# Altium footprint library 39281063.PcbLib: 1 footprints
Each footprint in its own frame and in the unit in brackets; x right, y up, seen from the top. Pads: shape width x height; smd on the part's side, far side on the other; paste and mask are expansions set on the pad; w line width, h text height; cw(c..) or ccw(c..) is an arc to the next point about the centre after c.
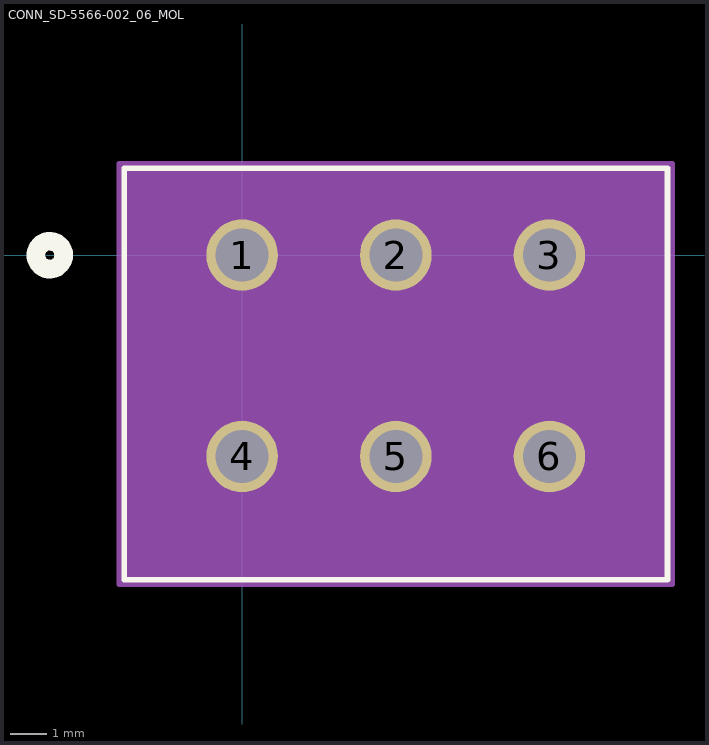
[diagram p0: the footprint, top view; thin cyan lines are the x and y axes]

## CONN_SD-5566-002_06_MOL [mil]
pads (6):
  round 77 hole 57 paste-38.5 mask+0: 1(0,0) 2(165.35,0) 3(330.71,0) 4(0,-216.54) 5(165.35,-216.54) 6(330.71,-216.54)
Top Overlay:
  circle w20: c-207.15,0 r15
  lines w6: -127.15,-349.42 457.85,-349.42 457.85,93.58 -127.15,93.58 -127.15,-349.42
  text ".Designator" at 27.85,-133.27 h50
Bottom Overlay:
  circle w20: c-207.15,0 r15
Mechanical 13:
  circle w20: c0,0 r15
  lines w1: -122.15,-344.42 452.85,-344.42 452.85,88.58 -122.15,88.58 -122.15,-344.42
  text ".Designator" at 27.85,-133.27 h50
Mechanical 15:
  region: 462.85,98.58 -132.15,98.58 -132.15,-354.42 462.85,-354.42
  lines w6: -132.15,-354.42 -132.15,98.58 462.85,98.58 462.85,-354.42 -132.15,-354.42